# Altium footprint library switch.PCBLIB: 92 footprints (part 1 of 6)
Each footprint in its own frame and in the unit in brackets; x right, y up, seen from the top. Pads: shape width x height; smd on the part's side, far side on the other; paste and mask are expansions set on the pad; w line width, h text height; cw(c..) or ccw(c..) is an arc to the next point about the centre after c.
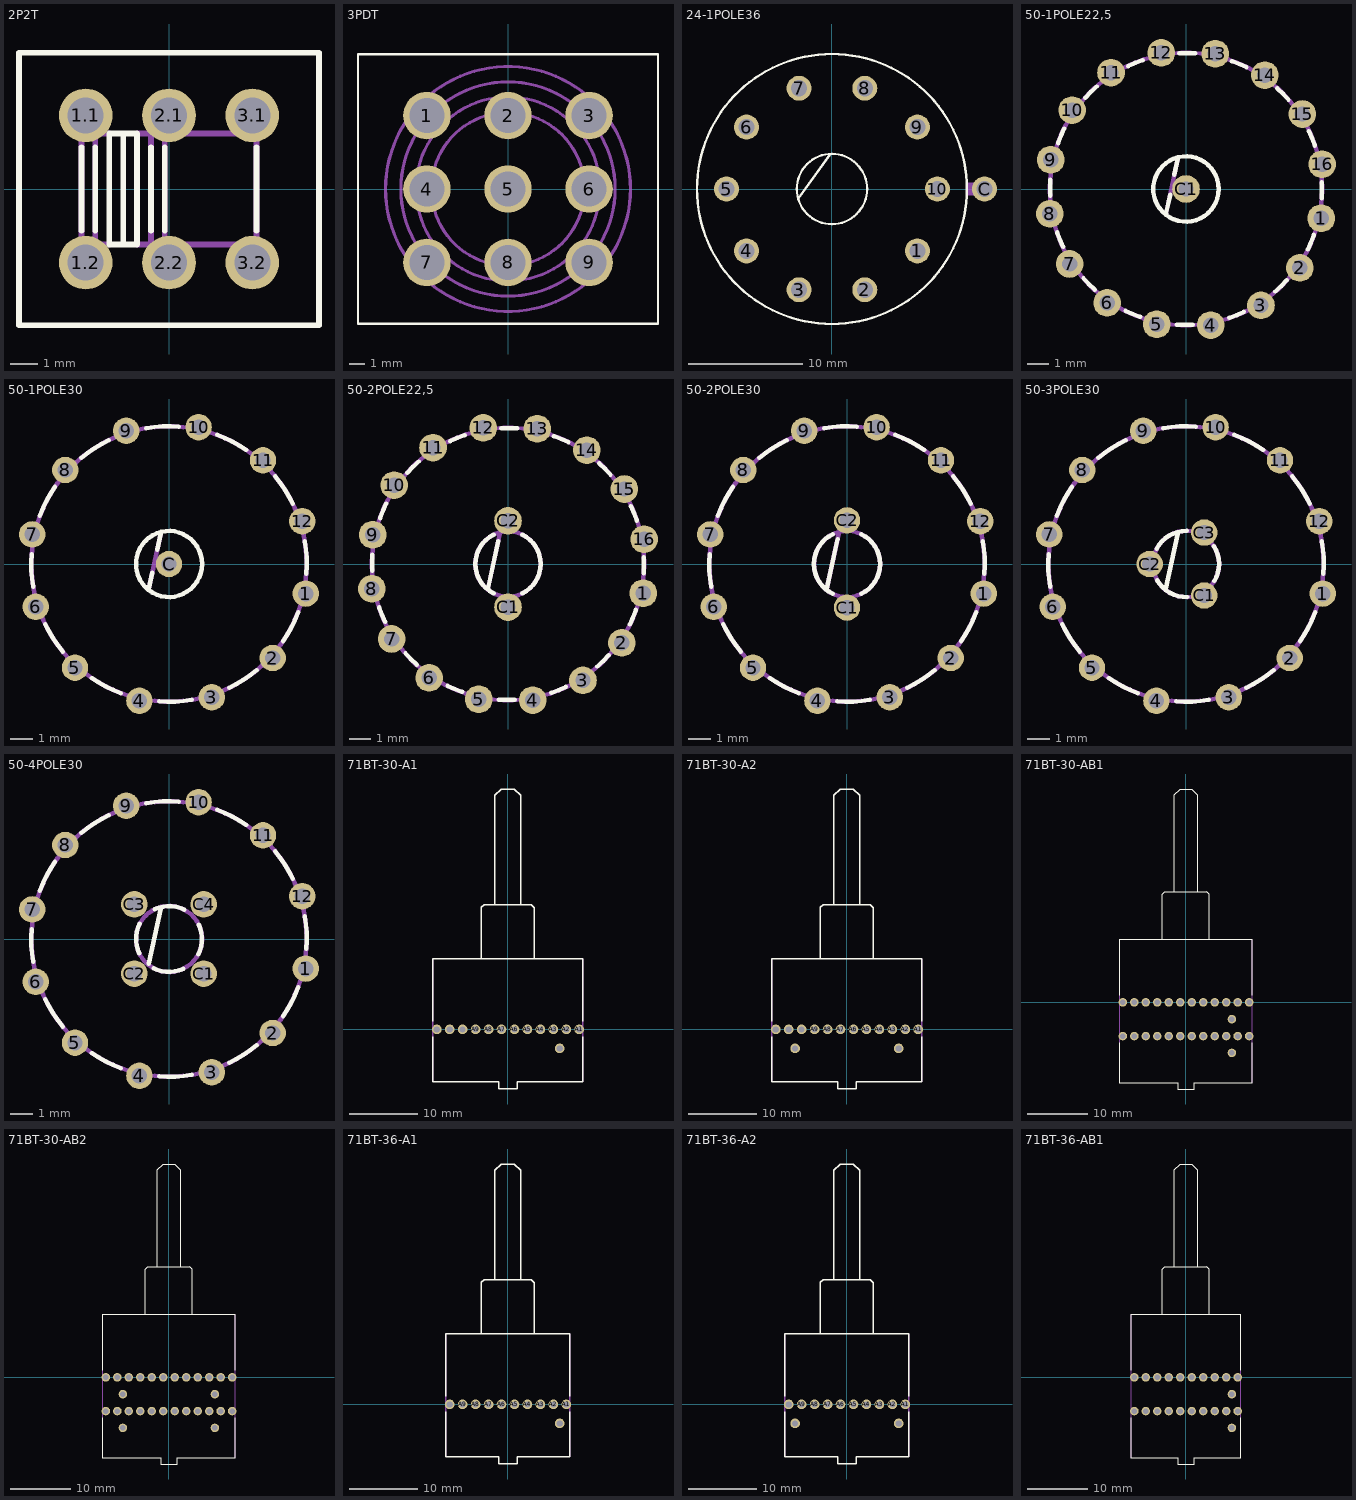
[diagram p0: the footprints below, top view; thin cyan lines are the x and y axes]

## 2P2T [mil]
pads (6):
  round 76 hole 51.18: 1.1(-118.11,104.33) 1.2(-118.11,-104.33) 2.1(0,104.33) 2.2(0,-104.33) 3.1(118.11,104.33) 3.2(118.11,-104.33)
Top Overlay:
  lines w8: -124.02,-59.06 -124.02,59.06 ; -104.33,-59.06 -104.33,59.06 ; -25.59,-59.06 -25.59,59.06 ; -5.91,-59.06 -5.91,59.06 ; 124.02,-59.06 124.02,59.06 ; -64.96,-78.74 -45.28,-78.74 -45.28,78.74 -64.96,78.74 ; -64.96,-78.74 -84.65,-78.74 -84.65,78.74 -64.96,78.74 ; -64.96,-78.74 -64.96,78.74 ; -212.6,-192.91 212.6,-192.91 212.6,192.91 -212.6,192.91 -212.6,-192.91
Mechanical 16:
  lines w8: -84.65,-78.74 -104.33,-78.74 ; -84.65,78.74 -104.33,78.74 ; -45.28,-78.74 -25.59,-78.74 ; -45.28,78.74 -25.59,78.74 ; -5.91,78.74 -5.91,-78.74 ; -104.33,-78.74 -124.02,-78.74 -124.02,78.74 -104.33,78.74 ; -104.33,-78.74 -104.33,78.74 ; -25.59,-78.74 -5.91,-78.74 ; -25.59,-78.74 -25.59,78.74 ; -25.59,78.74 124.02,78.74 124.02,-78.74 -5.91,-78.74

## 3PDT [mil]
pads (9):
  round 122.05 hole 90.55: 1(-208.66,188.98) 2(0,188.98) 3(208.66,188.98) 4(-208.66,0) 5(0,0) 6(208.66,0) 7(-208.66,-188.98) 8(0,-188.98) 9(208.66,-188.98)
Top Overlay:
  lines w6: -385.83,-346.46 385.83,-346.46 385.83,346.46 -385.83,346.46 -385.83,-346.46
Mechanical 16:
  circle w8: c0,0 r314.96
  circle w8: c0,0 r275.59
  circle w8: c0,0 r196.85
  lines w8: 39.37,-233.27 ccw(c0,0) -39.37,-233.27 -39.37,-196.85 39.37,-196.85 39.37,-232.28

## 24-1POLE36 [mil]
pads (11):
  round 86 hole 55.12: 1(294.09,-212.99) 2(112.99,-346.85) 3(-112.99,-346.85) 4(-294.09,-212.99) 5(-362.99,0) 6(-294.09,212.99) 7(-112.99,346.85) 8(112.99,346.85) 9(294.09,212.99) 10(362.99,0) C(525.2,0)
Top Overlay:
  circle w8: c0,0 r464.57
  circle w8: c0,0 r121.06
  lines w8: -115.48,-31.68 -6.13,118.82
Mechanical 16:
  rectangle: 465.55,-22.64 534.45,21.65

## 50-1POLE22,5 [mil]
pads (17):
  round 50 hole 27.56: 1(244.35,-52.83) 2(205.53,-142.32) 3(135.43,-210.14) 4(44.7,-245.97) 5(-52.83,-244.35) 6(-142.32,-205.53) 7(-210.14,-135.43) 8(-245.97,-44.7) 9(-244.35,52.83) 10(-205.53,142.32) 11(-135.43,210.14) 12(-44.7,245.97) 13(52.83,244.35) 14(142.32,205.53) 15(210.14,135.43) 16(245.97,44.7) C1(0,0)
Top Overlay:
  circle w8: c0,0 r59.06
  lines w8: -245.08,-11.81 cw(c-0.03,2.46) -245.08,16.73 ; -232.82,-78.33 ccw(c-0.94,2.25) -221.9,-104.7 ; -230.94,82.87 cw(c0.94,2.29) -220.02,109.24 ; -185.13,-161.46 ccw(c-1.66,1.82) -164.94,-181.65 ; -181.65,164.94 cw(c1.82,1.66) -161.46,185.13 ; -109.24,-220.02 ccw(c-2.29,0.94) -82.87,-230.94 ; -104.7,221.9 cw(c2.25,0.94) -78.33,232.82 ; -35.99,-44.36 -28.74,-10.63 ; -21.03,25.52 -14.76,54.33 ; -16.73,-245.08 ccw(c-2.46,-0.03) 11.81,-245.08 ; -11.81,245.08 cw(c2.46,0.03) 16.73,245.08 ; 78.33,-232.82 ccw(c-2.25,-0.94) 104.7,-221.9 ; 82.87,230.94 cw(c2.29,-0.94) 109.24,220.02 ; 161.46,-185.13 ccw(c-1.82,-1.66) 181.65,-164.94 ; 164.94,181.65 cw(c1.66,-1.82) 185.13,161.46 ; 220.02,-109.24 ccw(c-0.94,-2.29) 230.94,-82.87 ; 221.9,104.7 cw(c0.94,-2.25) 232.82,78.33 ; 245.08,-16.73 ccw(c0.03,-2.46) 245.08,11.81
Mechanical 16:
  circle w8: c0,0 r246.06
  lines w8: -35.99,-44.36 -14.76,54.33

## 50-1POLE30 [mil]
pads (13):
  round 47.24 hole 27.56: 1(244.35,-52.83) 2(185.2,-167.93) 3(76.42,-238.03) 4(-52.83,-244.35) 5(-167.93,-185.2) 6(-238.03,-76.42) 7(-244.35,52.83) 8(-185.2,167.93) 9(-76.42,238.03) 10(52.83,244.35) 11(167.93,185.2) 12(238.03,76.42) C(0,0)
Top Overlay:
  circle w8: c0,0 r59.06
  lines w8: -245.43,17.82 ccw(c-0.09,-0.2) -242.76,-40.55 ; -230.51,86.26 cw(c-0.21,-0.12) -203.64,138.14 ; -221.46,-107.28 ccw(c0.03,-0.22) -189.96,-156.5 ; -156.5,189.96 cw(c-0.22,-0.03) -107.28,221.46 ; -138.14,-203.64 ccw(c0.12,-0.21) -86.26,-230.51 ; -40.55,242.76 cw(c-0.2,0.11) 17.82,245.43 ; -35.99,-44.36 -29.72,-15.56 ; -21.03,25.52 -14.76,54.33 ; -17.82,-245.43 ccw(c0.2,-0.11) 40.55,-242.76 ; 86.26,230.51 cw(c-0.12,0.21) 138.14,203.64 ; 107.28,-221.46 ccw(c0.22,0.03) 156.5,-189.96 ; 189.96,156.5 cw(c-0.03,0.22) 221.46,107.28 ; 203.64,-138.14 ccw(c0.21,0.12) 230.51,-86.26 ; 242.76,40.55 cw(c0.09,0.2) 245.43,-17.82
Mechanical 16:
  circle w8: c0,0 r246.06
  lines w8: -35.99,-44.36 -14.76,54.33

## 50-2POLE22,5 [mil]
pads (18):
  round 50 hole 27.56: 1(244.35,-52.83) 2(205.53,-142.32) 3(135.43,-210.14) 4(44.7,-245.97) 5(-52.83,-244.35) 6(-142.32,-205.53) 7(-210.14,-135.43) 8(-245.97,-44.7) 9(-244.35,52.83) 10(-205.53,142.32) 11(-135.43,210.14) 12(-44.7,245.97) 13(52.83,244.35) 14(142.32,205.53) 15(210.14,135.43) 16(245.97,44.7) C1(0,-77.95) C2(0,77.95)
Top Overlay:
  lines w8: -245.08,-11.81 cw(c-0.03,2.46) -245.08,16.73 ; -232.82,-78.33 ccw(c-0.94,2.25) -221.9,-104.7 ; -230.94,82.87 cw(c0.94,2.29) -220.02,109.24 ; -185.13,-161.46 ccw(c-1.66,1.82) -164.94,-181.65 ; -181.65,164.94 cw(c1.82,1.66) -161.46,185.13 ; -109.24,-220.02 ccw(c-2.29,0.94) -82.87,-230.94 ; -104.7,221.9 cw(c2.25,0.94) -78.33,232.82 ; -35.99,-44.36 -17.52,41.53 ; -25.59,-53.15 cw(c0,0) -25.59,53.15 ; -16.73,-245.08 ccw(c-2.46,-0.03) 11.81,-245.08 ; -11.81,245.08 cw(c2.46,0.03) 16.73,245.08 ; 25.59,-53.15 ccw(c0,0) 25.59,53.15 ; 78.33,-232.82 ccw(c-2.25,-0.94) 104.7,-221.9 ; 82.87,230.94 cw(c2.29,-0.94) 109.24,220.02 ; 161.46,-185.13 ccw(c-1.82,-1.66) 181.65,-164.94 ; 164.94,181.65 cw(c1.66,-1.82) 185.13,161.46 ; 220.02,-109.24 ccw(c-0.94,-2.29) 230.94,-82.87 ; 221.9,104.7 cw(c0.94,-2.25) 232.82,78.33 ; 245.08,-16.73 ccw(c0.03,-2.46) 245.08,11.81
Mechanical 16:
  circle w8: c0,0 r246.06
  circle w8: c0,0 r59.06
  lines w8: -35.99,-44.36 -14.76,54.33

## 50-2POLE30 [mil]
pads (14):
  round 47.24 hole 27.56: 1(244.35,-52.83) 2(185.2,-167.93) 3(76.42,-238.03) 4(-52.83,-244.35) 5(-167.93,-185.2) 6(-238.03,-76.42) 7(-244.35,52.83) 8(-185.2,167.93) 9(-76.42,238.03) 10(52.83,244.35) 11(167.93,185.2) 12(238.03,76.42) C1(0,-77.95) C2(0,77.95)
Top Overlay:
  lines w8: -245.43,17.82 ccw(c-0.09,-0.2) -242.76,-40.55 ; -230.51,86.26 cw(c-0.21,-0.12) -203.64,138.14 ; -221.46,-107.28 ccw(c0.03,-0.22) -189.96,-156.5 ; -156.5,189.96 cw(c-0.22,-0.03) -107.28,221.46 ; -138.14,-203.64 ccw(c0.12,-0.21) -86.26,-230.51 ; -40.55,242.76 cw(c-0.2,0.11) 17.82,245.43 ; -35.99,-44.36 -16.93,44.48 ; -25.59,-53.15 cw(c0,0) -25.59,53.15 ; -17.82,-245.43 ccw(c0.2,-0.11) 40.55,-242.76 ; 25.59,-53.15 ccw(c0,0) 25.59,53.15 ; 86.26,230.51 cw(c-0.12,0.21) 138.14,203.64 ; 107.28,-221.46 ccw(c0.22,0.03) 156.5,-189.96 ; 189.96,156.5 cw(c-0.03,0.22) 221.46,107.28 ; 203.64,-138.14 ccw(c0.21,0.12) 230.51,-86.26 ; 242.76,40.55 cw(c0.09,0.2) 245.43,-17.82
Mechanical 16:
  circle w8: c0,0 r246.06
  circle w8: c0,0 r59.06
  lines w8: -35.99,-44.36 -14.76,54.33

## 50-3POLE30 [mm]
pads (15):
  round 1.2 hole 0.7: 1(6.206,-1.342) 2(4.704,-4.265) 3(1.941,-6.046) 4(-1.342,-6.206) 5(-4.265,-4.704) 6(-6.046,-1.941) 7(-6.206,1.342) 8(-4.704,4.265) 9(-1.941,6.046) 10(1.342,6.206) 11(4.265,4.704) 12(6.046,1.941) C1(0.825,-1.429) C2(-1.65,0) C3(0.825,1.428)
Top Overlay:
  lines w0.203: -6.234,0.453 ccw(c-0.002,-0.005) -6.166,-1.03 ; -5.855,2.191 cw(c-0.005,-0.003) -5.172,3.509 ; -5.625,-2.725 ccw(c0.001,-0.006) -4.825,-3.975 ; -3.975,4.825 cw(c-0.006,-0.001) -2.725,5.625 ; -3.509,-5.172 ccw(c0.003,-0.005) -2.191,-5.855 ; -1.325,0.7 cw(c0.002,0) 0.025,1.5 ; -1.311,-0.728 ccw(c-0.001,0.002) 0.056,-1.497 ; -1.03,6.166 cw(c-0.005,0.003) 0.453,6.234 ; -0.914,-1.126 -0.374,1.379 ; -0.453,-6.234 ccw(c0.005,-0.003) 1.03,-6.166 ; 1.269,0.797 cw(c-0.001,-0.002) 1.287,-0.772 ; 2.191,5.855 cw(c-0.003,0.005) 3.509,5.172 ; 2.725,-5.625 ccw(c0.006,0.001) 3.975,-4.825 ; 4.825,3.975 cw(c-0.001,0.006) 5.625,2.725 ; 5.172,-3.509 ccw(c0.005,0.003) 5.855,-2.191 ; 6.166,1.03 cw(c0.002,0.005) 6.234,-0.453
Mechanical 16:
  circle w0.203: c0,0 r6.25
  circle w0.203: c0,0 r1.5

## 50-4POLE30 [mil]
pads (16):
  round 47.24 hole 27.56: 1(244.35,-52.83) 2(185.2,-167.93) 3(76.42,-238.03) 4(-52.83,-244.35) 5(-167.93,-185.2) 6(-238.03,-76.42) 7(-244.35,52.83) 8(-185.2,167.93) 9(-76.42,238.03) 10(52.83,244.35) 11(167.93,185.2) 12(238.03,76.42) C1(61.94,-61.94) C2(-61.94,-61.94) C3(-61.94,61.94) C4(61.94,61.94)
Top Overlay:
  lines w8: -245.43,17.82 ccw(c-0.09,-0.2) -242.76,-40.55 ; -230.51,86.26 cw(c-0.21,-0.12) -203.64,138.14 ; -221.46,-107.28 ccw(c0.03,-0.22) -189.96,-156.5 ; -156.5,189.96 cw(c-0.22,-0.03) -107.28,221.46 ; -138.14,-203.64 ccw(c0.12,-0.21) -86.26,-230.51 ; -53.15,-25.59 cw(c0,0.01) -52.17,27.56 ; -40.55,242.76 cw(c-0.2,0.11) 17.82,245.43 ; -35.99,-44.36 -14.76,54.33 ; -27.56,-52.17 ccw(c-0.01,0.06) 25.59,-53.15 ; -25.59,53.15 cw(c0.01,0) 27.56,52.17 ; -17.82,-245.43 ccw(c0.2,-0.11) 40.55,-242.76 ; 52.17,-27.56 ccw(c0,-0.01) 53.15,25.59 ; 86.26,230.51 cw(c-0.12,0.21) 138.14,203.64 ; 107.28,-221.46 ccw(c0.22,0.03) 156.5,-189.96 ; 189.96,156.5 cw(c-0.03,0.22) 221.46,107.28 ; 203.64,-138.14 ccw(c0.21,0.12) 230.51,-86.26 ; 242.76,40.55 cw(c0.09,0.2) 245.43,-17.82
Mechanical 16:
  circle w8: c0,0 r246.06
  circle w8: c0,0 r59.06

## 71BT-30-A1 [mil]
pads (13):
  round 56 hole 35.43: A1(413,0) A2(338,0) A3(263,0) A4(188,0) A5(113,0) A6(38,0) A7(-37,0) A8(-112,0) A9(-187,0) A10(-262,0) A11(-337,0) A12(-412,0) A-C1(300,-110)
Top Overlay:
  lines w8: -434.06,-42.52 -434.06,-303.15 -54.13,-303.15 -54.13,-345.47 54.13,-345.47 54.13,-303.15 434.06,-303.15 434.06,-42.52 ; -434.06,46.85 -434.06,407.48 434.06,407.48 434.06,46.85 ; -153.54,409.45 -153.54,705.71 -136.81,722.44 -74.8,722.44 ; 153.54,408.46 153.54,704.72 135.83,722.44 74.8,722.44 ; -74.8,722.44 -74.8,1354.33 -37.4,1391.73 37.4,1391.73 74.8,1354.33 74.8,722.44 ; -74.8,722.44 74.8,722.44
Mechanical 16:
  lines w8: -434.06,-303.15 -434.06,407.48 ; 434.06,-303.15 434.06,407.48

## 71BT-30-A2 [mil]
pads (14):
  round 56 hole 35.43: A1(413,0) A2(338,0) A3(263,0) A4(188,0) A5(113,0) A6(38,0) A7(-37,0) A8(-112,0) A9(-187,0) A10(-262,0) A11(-337,0) A12(-412,0) A-C1(300,-110) A-C2(-300,-110)
Top Overlay:
  lines w8: -434.06,-42.52 -434.06,-303.15 -54.13,-303.15 -54.13,-345.47 54.13,-345.47 54.13,-303.15 434.06,-303.15 434.06,-42.52 ; -434.06,46.85 -434.06,407.48 434.06,407.48 434.06,46.85 ; -153.54,409.45 -153.54,705.71 -136.81,722.44 -74.8,722.44 ; 153.54,408.46 153.54,704.72 135.83,722.44 74.8,722.44 ; -74.8,722.44 -74.8,1354.33 -37.4,1391.73 37.4,1391.73 74.8,1354.33 74.8,722.44 ; -74.8,722.44 74.8,722.44
Mechanical 16:
  lines w8: -434.06,-303.15 -434.06,407.48 ; 434.06,-303.15 434.06,407.48

## 71BT-30-AB1 [mil]
pads (26):
  round 56 hole 35.43: A1(413,0) A2(338,0) A3(263,0) A4(188,0) A5(113,0) A6(38,0) A7(-37,0) A8(-112,0) A9(-187,0) A10(-262,0) A11(-337,0) A12(-412,0) A-C1(300,-110) B1(413,-220) B2(338,-220) B3(263,-220) B4(188,-220) B5(113,-220) B6(38,-220) B7(-37,-220) B8(-112,-220) B9(-187,-220) B10(-262,-220) B11(-337,-220) B12(-412,-220) B-C1(300,-330)
Top Overlay:
  lines w8: -434.06,-262.52 -434.06,-523.15 -54.13,-523.15 -54.13,-565.47 54.13,-565.47 54.13,-523.15 434.06,-523.15 434.06,-262.52 ; -434.06,46.85 -434.06,407.48 434.06,407.48 434.06,46.85 ; -153.54,409.45 -153.54,705.71 -136.81,722.44 -74.8,722.44 ; 153.54,408.46 153.54,704.72 135.83,722.44 74.8,722.44 ; -74.8,722.44 -74.8,1354.33 -37.4,1391.73 37.4,1391.73 74.8,1354.33 74.8,722.44 ; -74.8,722.44 74.8,722.44
Mechanical 16:
  lines w8: -434.06,-523.15 -434.06,407.48 ; 434.06,-523.15 434.06,407.48

## 71BT-30-AB2 [mil]
pads (28):
  round 56 hole 35.43: A1(413,0) A2(338,0) A3(263,0) A4(188,0) A5(113,0) A6(38,0) A7(-37,0) A8(-112,0) A9(-187,0) A10(-262,0) A11(-337,0) A12(-412,0) A-C1(300,-110) A-C2(-300,-110) B1(413,-220) B2(338,-220) B3(263,-220) B4(188,-220) B5(113,-220) B6(38,-220) B7(-37,-220) B8(-112,-220) B9(-187,-220) B10(-262,-220) B11(-337,-220) B12(-412,-220) B-C1(300,-330) B-C2(-300,-330)
Top Overlay:
  lines w8: -434.06,-262.52 -434.06,-523.15 -54.13,-523.15 -54.13,-565.47 54.13,-565.47 54.13,-523.15 434.06,-523.15 434.06,-262.52 ; -434.06,46.85 -434.06,407.48 434.06,407.48 434.06,46.85 ; -153.54,409.45 -153.54,705.71 -136.81,722.44 -74.8,722.44 ; 153.54,408.46 153.54,704.72 135.83,722.44 74.8,722.44 ; -74.8,722.44 -74.8,1354.33 -37.4,1391.73 37.4,1391.73 74.8,1354.33 74.8,722.44 ; -74.8,722.44 74.8,722.44
Mechanical 16:
  lines w8: -434.06,-523.15 -434.06,407.48 ; 434.06,-523.15 434.06,407.48

## 71BT-36-A1 [mil]
pads (11):
  round 56 hole 35.43: A1(338,0) A2(263,0) A3(188,0) A4(113,0) A5(38,0) A6(-37,0) A7(-112,0) A8(-187,0) A9(-262,0) A10(-337,0) A-C1(300,-110)
Top Overlay:
  lines w8: -359.25,-42.52 -359.25,-303.15 -54.13,-303.15 -54.13,-345.47 54.13,-345.47 54.13,-303.15 359.25,-303.15 359.25,-42.52 ; -359.25,46.85 -359.25,407.48 359.25,407.48 359.25,46.85 ; -153.54,409.45 -153.54,705.71 -136.81,722.44 -74.8,722.44 ; 153.54,408.46 153.54,704.72 135.83,722.44 74.8,722.44 ; -74.8,722.44 -74.8,1354.33 -37.4,1391.73 37.4,1391.73 74.8,1354.33 74.8,722.44 ; -74.8,722.44 74.8,722.44
Mechanical 16:
  lines w8: -359.25,-303.15 -359.25,407.48 ; 359.25,-303.15 359.25,407.48

## 71BT-36-A2 [mil]
pads (12):
  round 56 hole 35.43: A1(338,0) A2(263,0) A3(188,0) A4(113,0) A5(38,0) A6(-37,0) A7(-112,0) A8(-187,0) A9(-262,0) A10(-337,0) A-C1(300,-110) A-C2(-300,-110)
Top Overlay:
  lines w8: -359.25,-42.52 -359.25,-303.15 -54.13,-303.15 -54.13,-345.47 54.13,-345.47 54.13,-303.15 359.25,-303.15 359.25,-42.52 ; -359.25,46.85 -359.25,407.48 359.25,407.48 359.25,46.85 ; -153.54,409.45 -153.54,705.71 -136.81,722.44 -74.8,722.44 ; 153.54,408.46 153.54,704.72 135.83,722.44 74.8,722.44 ; -74.8,722.44 -74.8,1354.33 -37.4,1391.73 37.4,1391.73 74.8,1354.33 74.8,722.44 ; -74.8,722.44 74.8,722.44
Mechanical 16:
  lines w8: -359.25,-303.15 -359.25,407.48 ; 359.25,-303.15 359.25,407.48

## 71BT-36-AB1 [mil]
pads (22):
  round 56 hole 35.43: A1(338,0) A2(263,0) A3(188,0) A4(113,0) A5(38,0) A6(-37,0) A7(-112,0) A8(-187,0) A9(-262,0) A10(-337,0) A-C1(300,-110) B1(338,-220) B2(263,-220) B3(188,-220) B4(113,-220) B5(38,-220) B6(-37,-220) B7(-112,-220) B8(-187,-220) B9(-262,-220) B10(-337,-220) B-C1(300,-330)
Top Overlay:
  lines w8: -359.25,-262.52 -359.25,-523.15 -54.13,-523.15 -54.13,-565.47 54.13,-565.47 54.13,-523.15 359.25,-523.15 359.25,-262.52 ; -359.25,46.85 -359.25,407.48 359.25,407.48 359.25,46.85 ; -153.54,409.45 -153.54,705.71 -136.81,722.44 -74.8,722.44 ; 153.54,408.46 153.54,704.72 135.83,722.44 74.8,722.44 ; -74.8,722.44 -74.8,1354.33 -37.4,1391.73 37.4,1391.73 74.8,1354.33 74.8,722.44 ; -74.8,722.44 74.8,722.44
Mechanical 16:
  lines w8: -359.25,-523.15 -359.25,407.48 ; 359.25,-523.15 359.25,407.48